# Altium footprint library HK_PcbLib.PcbLib: 11 footprints
Each footprint in its own frame and in the unit in brackets; x right, y up, seen from the top. Pads: shape width x height; smd on the part's side, far side on the other; paste and mask are expansions set on the pad; w line width, h text height; cw(c..) or ccw(c..) is an arc to the next point about the centre after c.
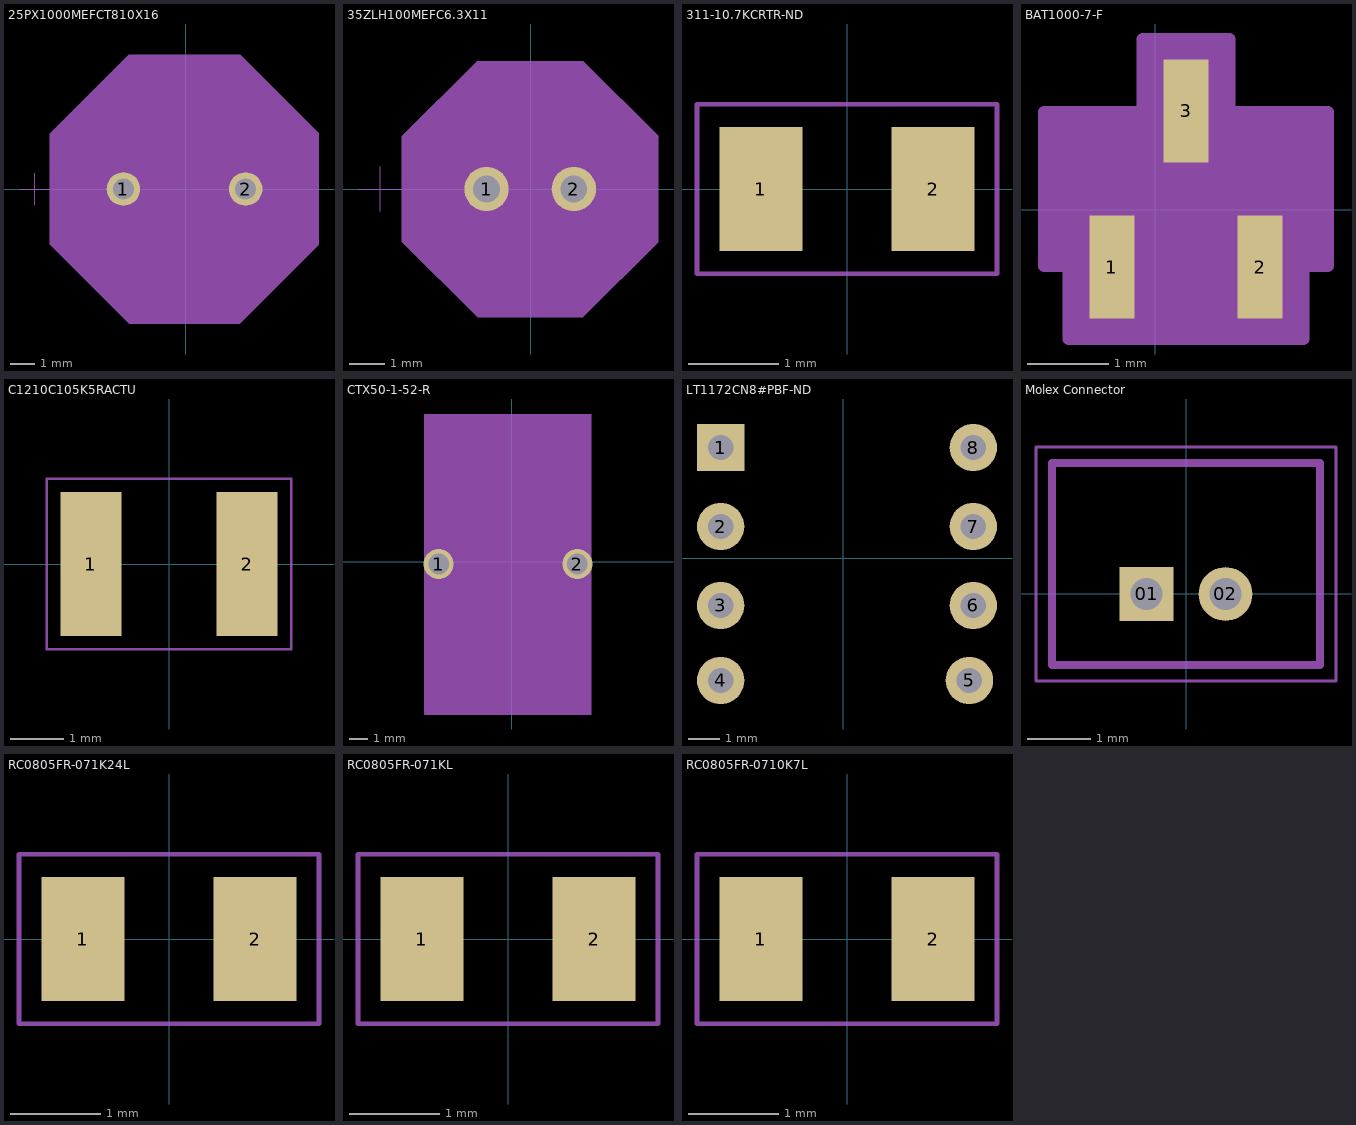
[diagram p0: the footprints below, top view; thin cyan lines are the x and y axes]

## 25PX1000MEFCT810X16 [mil] "Electrolytic Capacitor 1000uF"
pads (2):
  round 54 / inner round 60 / far side round 54 hole 34 paste-99999 mask+0: 1(-100,0) 2(96.85,0)
Mechanical 13:
  circle w0: c-1.57,0 r206.5
  lines w1: -268.07,0 -218.07,0 ; -243.07,-25 -243.07,25
Mechanical 15:
  region: -218.07,89.15 -90.72,216.5 87.57,216.5 214.93,89.15 214.93,-89.15 87.57,-216.5 -90.72,-216.5 -218.07,-89.15
  lines w1: -218.07,-89.15 -218.07,89.15 -90.72,216.5 87.57,216.5 214.93,89.15 214.93,-89.15 87.57,-216.5 -90.72,-216.5 -218.07,-89.15
3D body: height 10, standoff 0, extent -100,0 -90,10
3D body "CAP_PKPZ_10X16_LOW_RUB.step": height 689.61, standoff -172.01, extent -208.07,-206.02 205.88,206.02

## 35ZLH100MEFC6.3X11 [mil] "Electrolytic Capacitor 100uF"
pads (2):
  round 50 / inner round 60 / far side round 50 hole 30 paste-99999 mask+0: 1(-50,0) 2(48.43,0)
Mechanical 13:
  circle w0: c-0.79,0 r134
  lines w1: -194.79,0 -144.79,0 ; -169.79,-25 -169.79,25
Mechanical 15:
  region: -144.79,59.29 -60.08,144 58.51,144 143.21,59.29 143.21,-59.29 58.51,-144 -60.08,-144 -144.79,-59.29
  lines w1: -144.79,-59.29 -60.08,-144 58.51,-144 143.21,-59.29 143.21,59.29 58.51,144 -60.08,144 -144.79,59.29 -144.79,-59.29
3D body: height 10, standoff 0, extent -50,0 -40,10
3D body "35ZLH100MEFC6.3X11.step": height 492.13, standoff -748.03, extent -124.8,-123.88 123.23,123.93

## 311-10.7KCRTR-ND [mm] "0805"
pads (2):
  rect 0.92x1.38 smd: 1(-0.955,0) 2(0.955,0)
Mechanical 15:
  lines w0.05: -1.665,-0.94 1.665,-0.94 1.665,0.94 -1.665,0.94 -1.665,-0.94
3D body "RC0805FR-0710K7L.step": height 0.6, standoff 0, extent -1,-0.625 1,0.625

## BAT1000-7-F [mil] "Diode"
pads (3):
  rect 22x50 smd paste+0 mask+0: 1(-21.02,-28) 2(51.02,-28) 3(15,48)
Mechanical 13:
  circle w0: c-34,-7.5 r5
  lines w1: -44,-17.5 74,-17.5 74,37.5 -44,37.5 -44,-17.5 ; -31.02,-39 -31.02,-17.5 -11.02,-17.5 -11.02,-39 -31.02,-39 ; 5,37.5 25,37.5 25,59 5,59 5,37.5 ; 41.02,-39 41.02,-17.5 61.02,-17.5 61.02,-39 41.02,-39
Mechanical 15:
  region: -54,-27.5 -54,47.5 -6,47.5 -6,83 36,83 36,47.5 84,47.5 84,-27.5 72.02,-27.5 72.02,-63 -42.02,-63 -42.02,-27.5
  region: 74,-17.5 -44,-17.5 -44,37.5 74,37.5
  lines w6: -54,-27.5 -54,47.5 -6,47.5 -6,83 36,83 36,47.5 84,47.5 84,-27.5 72.02,-27.5 72.02,-63 -42.02,-63 -42.02,-27.5 -54,-27.5
3D body: height 10, standoff 0, extent 15,10 25,20
3D body "SOT23_BAT_DIO.step": height 43.11, standoff 0, extent -44.02,-39.02 74.02,59.02

## C1210C105K5RACTU [mm] "Ceramic Capacitor 1uF"
pads (2):
  rect 1.16x2.72 smd: 1(-1.475,0) 2(1.475,0)
Mechanical 15:
  lines w0.05: -2.308,-1.608 -2.308,1.608 2.308,1.608 2.308,-1.608 -2.308,-1.608
3D body "C1210C105K5RACTU.step": height 1.45, standoff 0, extent -1.6,-1.25 1.6,1.25

## CTX50-1-52-R [mil] "Inductor 50uH"
pads (2):
  round 64 / inner round 60 / far side round 64 hole 44 paste-99999 mask+0: 1(-155,-5) 2(140,-5)
Mechanical 13:
  lines w1: -184.5,-324 -184.5,314 169.5,314 169.5,-324 -184.5,-324
Mechanical 15:
  region: -184.5,314 169.5,314 169.5,-324 -184.5,-324
  lines w1: -184.5,-324 -184.5,314 169.5,314 169.5,-324 -184.5,-324

## LT1172CN8#PBF-ND [mil] "ICU"
pads (8):
  rect 60x60 / inner round 60 / far side rect 60x60 hole 32: 1(-155,140)
  round 60 hole 32: 2(-155,40) 3(-155,-60) 4(-155,-155) 5(160,-155) 6(165,-60) 7(165,40) 8(165,140)
3D body "LT1172CN8_PBF.step": height 200, standoff -125.2, extent -156.22,-193.78 166.22,183.78

## Molex Connector [mm]
height 0.508
pads (2):
  rect 0.85x0.85 / inner round 0.85 / far side rect 0.85x0.85 hole 0.5: 01(-0.625,0)
  round 0.85 hole 0.5: 02(0.625,0)
Mechanical 13:
  lines w0.127: -2.125,-1.125 -2.125,2.075 2.125,2.075 2.125,-1.125 -2.125,-1.125
Mechanical 15:
  lines w0.05: -2.375,-1.375 -2.375,2.325 2.375,2.325 2.375,-1.375 -2.375,-1.375
3D body "0530470210--3DModel-STEP-231308.STEP": height 5.83, standoff -0.67, extent -2.091,-1.092 2.159,2.108

## RC0805FR-071K24L [mm] "1.24Kohm Resistor"
pads (2):
  rect 0.92x1.38 smd: 1(-0.955,0) 2(0.955,0)
Mechanical 15:
  lines w0.05: -1.665,-0.94 1.665,-0.94 1.665,0.94 -1.665,0.94 -1.665,-0.94
3D body "RC0805FR-071K24L.step": height 0.6, standoff 0, extent -1,-0.625 1,0.625

## RC0805FR-071KL [mm] "1Kohm resistor"
pads (2):
  rect 0.92x1.38 smd: 1(-0.955,0) 2(0.955,0)
Mechanical 15:
  lines w0.05: -1.665,-0.94 1.665,-0.94 1.665,0.94 -1.665,0.94 -1.665,-0.94
3D body "step_temp.STEP": height 0.6, standoff 0, extent -1,-0.625 1,0.625

## RC0805FR-0710K7L [mm] "Resistor 10.7 Kohm - 0805"
pads (2):
  rect 0.92x1.38 smd: 1(-0.955,0) 2(0.955,0)
Mechanical 15:
  lines w0.05: -1.665,-0.94 1.665,-0.94 1.665,0.94 -1.665,0.94 -1.665,-0.94
3D body "RC0805FR-0710K7L.step": height 0.6, standoff 0, extent -1,-0.625 1,0.625